# Altium schematic symbol library time_management.SchLib: 2 symbols
Pins are listed as number, name and electrical type; pins without a type are passive.

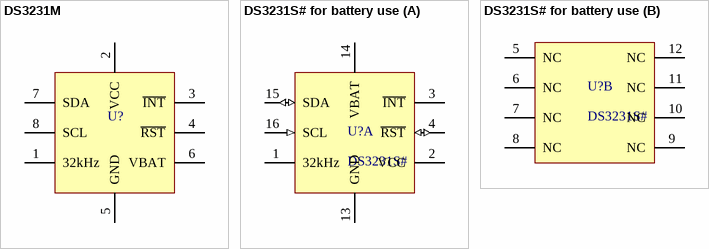
[diagram p0: symbols DS3231M to DS3231S# for battery use]

## DS3231M
designator U?, comment IC RTC CLK/CALENDAR I2C 8SOIC  (value not drawn)
Real Time Clock (RTC) IC Clock/Calendar I2C, 2-Wire Serial 8-SOIC (0.154", 3.90mm Width); Manufacturer: Analog Devices; MPN: DS3231MZ+TRL; Voltage - Supply: 2.3V ~ 5.5V; Current - Timekeeping (Max): 130µA ~ 200µA @ 3.63V ~ 5.5V; Interface: I2C; Features: Alarm, Leap Year, Square Wave Output; Voltage - Supply, Battery: 2.3V ~ 5.5V; Operating Temperature: -40°C ~ 85°C; Package: 8-SOIC; Datasheet: https://www.analog.com/media/en/technical-documentation/data-sheets/DS3231M.pdf
footprint SOIC8 (SOIC8, pitch 1.27mm)
pins: 1 32kHz, 2 VCC, 3 ~{INT}, 4 ~{RST}, 5 GND, 6 VBAT, 7 SDA, 8 SCL

## DS3231S# for battery use
designator U?, comment DS3231S#
IC RTC CLK/CALENDAR I2C 16SOIC. Symbol used with battery as the main supply voltage.
footprint SOIC_16_M (SOIC, 16-Leads, Body 10.3x7.5mm, Pitch 1.27mm, IPC Low Density)
footprint SOIC_16_L (SOIC, 16-Leads, Body 10.3x7.5mm, Pitch 1.27mm, IPC High Density)
footprint SOIC_16_N (SOIC, 16-Leads, Body 10.3x7.5mm, Pitch 1.27mm, IPC Medium Density)
part A pins: 1 32kHz (oc), 2 VCC (power), 3 ~{INT} (oc), 4 ~{RST} (io), 13 GND (power), 14 VBAT (power), 15 SDA (io), 16 SCL (in)
part B pins: 5 NC, 6 NC, 7 NC, 8 NC, 9 NC, 10 NC, 11 NC, 12 NC